# Altium footprint library Modules.PcbLib: 1 footprints
Each footprint in its own frame and in the unit in brackets; x right, y up, seen from the top. Pads: shape width x height; smd on the part's side, far side on the other; paste and mask are expansions set on the pad; w line width, h text height; cw(c..) or ccw(c..) is an arc to the next point about the centre after c.
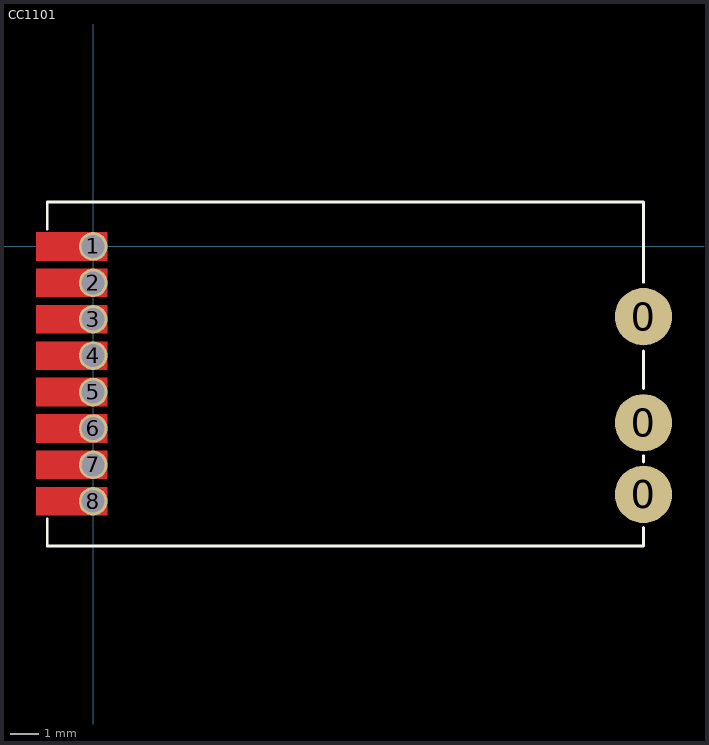
[diagram p0: the footprint, top view; thin cyan lines are the x and y axes]

## CC1101 [mm]
height 4
pads (11):
  round 2 smd: 0(19.2,-8.65) 0(19.2,-6.15) 0(19.2,-2.45)
  round 1 hole 0.8 mask+0: 1(0,0) 2(0,-1.27) 3(0,-2.54) 4(0,-3.81) 5(0,-5.08) 6(0,-6.35) 7(0,-7.62) 8(0,-8.89)
Top Layer:
  rectangle: -2,-9.39 0.5,-8.39
  rectangle: -2,-8.12 0.5,-7.12
  rectangle: -2,-6.85 0.5,-5.85
  rectangle: -2,-5.58 0.5,-4.58
  rectangle: -2,-4.31 0.5,-3.31
  rectangle: -2,-3.04 0.5,-2.04
  rectangle: -2,-1.77 0.5,-0.77
  rectangle: -2,-0.5 0.5,0.5
Top Overlay:
  lines w0.1: -1.6,-9.5 -1.6,-10.45 19.2,-10.45 19.2,-9.8 ; -1.6,0.6 -1.6,1.55 0,1.55 19.2,1.55 19.2,-1.25 ; -0.025,-8.89 0,-8.89 ; 19.2,-7.525 19.2,-7.3 ; 19.2,-4.95 19.2,-3.65
Top Paste:
  rectangle: -2,-9.39 0.5,-8.39
  rectangle: -2,-8.12 0.5,-7.12
  rectangle: -2,-6.85 0.5,-5.85
  rectangle: -2,-5.58 0.5,-4.58
  rectangle: -2,-4.31 0.5,-3.31
  rectangle: -2,-3.04 0.5,-2.04
  rectangle: -2,-1.77 0.5,-0.77
  rectangle: -2,-0.5 0.5,0.5
Top Solder:
  rectangle: -2,-9.39 0.5,-8.39
  rectangle: -2,-8.12 0.5,-7.12
  rectangle: -2,-6.85 0.5,-5.85
  rectangle: -2,-5.58 0.5,-4.58
  rectangle: -2,-4.31 0.5,-3.31
  rectangle: -2,-3.04 0.5,-2.04
  rectangle: -2,-1.77 0.5,-0.77
  rectangle: -2,-0.5 0.5,0.5
3D body: height 4, standoff 0, extent -1.6,-10.5 19.2,1.5